# Altium footprint library 61300811121.PcbLib: 1 footprints
Each footprint in its own frame and in the unit in brackets; x right, y up, seen from the top. Pads: shape width x height; smd on the part's side, far side on the other; paste and mask are expansions set on the pad; w line width, h text height; cw(c..) or ccw(c..) is an arc to the next point about the centre after c.
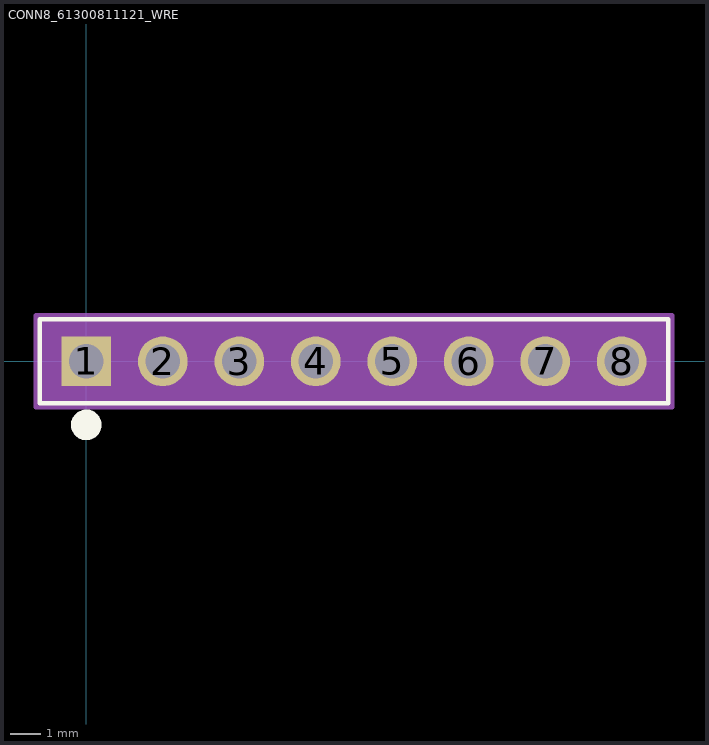
[diagram p0: the footprint, top view; thin cyan lines are the x and y axes]

## CONN8_61300811121_WRE [mil]
pads (8):
  rect 65x65 / inner round 60 / far side rect 65x65 hole 45 paste-32.5 mask+0: 1(0,0)
  round 65 / inner round 60 / far side round 65 hole 45 paste-32.5 mask+0: 2(100,0) 3(200,0) 4(300,0) 5(400,0) 6(500,0) 7(600,0) 8(700,0)
Top Overlay:
  circle w20: c0,-83 r10
  lines w6: -61,-55 -61,55 761,55 761,-55 -61,-55
Mechanical 13:
  circle w0: c0,-35 r10
  lines w1: -56,-50 -56,50 756,50 756,-50 -56,-50
Mechanical 15:
  region: 766,60 -66,60 -66,-60 766,-60
  lines w6: -66,-60 766,-60 766,60 -66,60 -66,-60
3D body "CONN8_61300811121_WRE.step": height 335.98, standoff -200, extent -50,-50 750,50